# EAGLE library part ADP3330 (library raznoe01)
adp3330
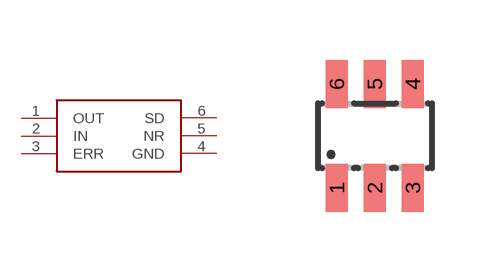
[diagram p2: symbol with the pads of SOT-23-6; footprint SOT-23-6]

Designator prefix -

## ADP3330  [SOT-23-6]
1  OUT
2  IN
3  ERR
4  GND
5  NR
6  SD

## Footprint SOT-23-6 (pad centres in mm)
sot sot23 sot-23 sot-23-6
smd 0.55 x 1.2: 1 -0.95,-1.3; 2 0,-1.3; 3 0.95,-1.3; 4 0.95,1.3; 5 0,1.3; 6 -0.95,1.3